# Altium footprint library OPL_Inductor.PCBLIB: 6 footprints
Each footprint in its own frame and in the unit in brackets; x right, y up, seen from the top. Pads: shape width x height; smd on the part's side, far side on the other; paste and mask are expansions set on the pad; w line width, h text height; cw(c..) or ccw(c..) is an arc to the next point about the centre after c.
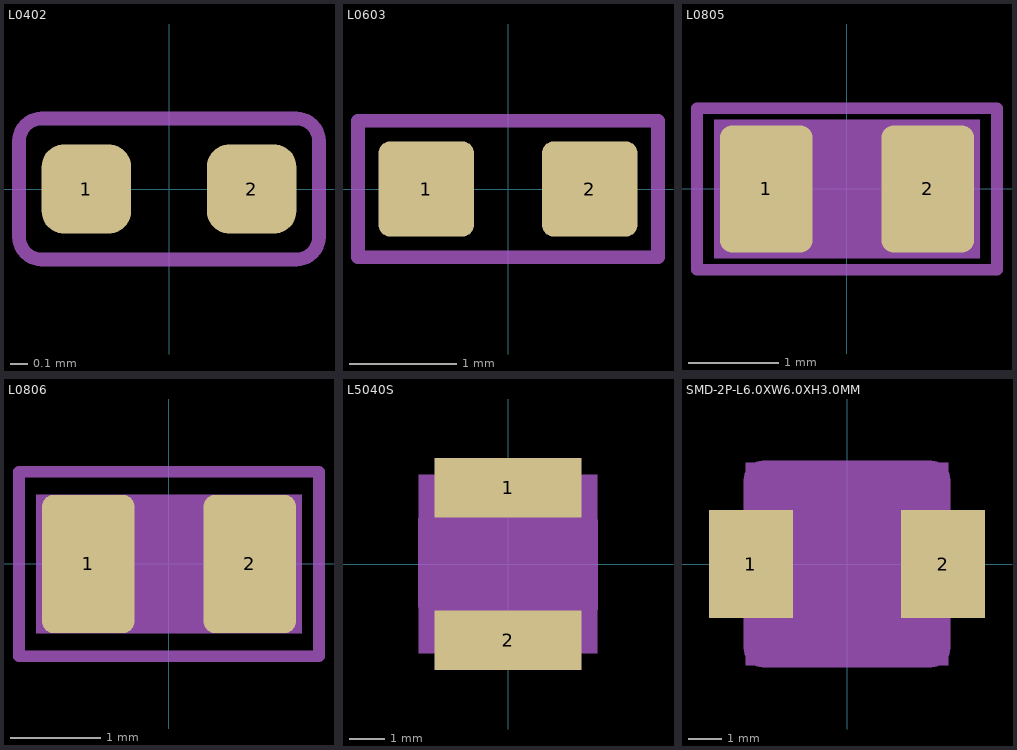
[diagram p0: the footprints below, top view; thin cyan lines are the x and y axes]

## L0402 [mil]
pads (2):
  rrect50% 19.69x19.69 smd: 1(-18.21,0) 2(18.21,0)
Mechanical 2:
  lines w3: -33.03,-10.53 ccw(c-28.03,-10.53) -28.03,-15.53 28.03,-15.53 ccw(c28.03,-10.53) 33.03,-10.53 33.03,10.53 ccw(c28.03,10.53) 28.03,15.53 -28.03,15.53 ccw(c-28.03,10.53) -33.03,10.53 -33.03,-10.53

## L0603 [mil]
pads (2):
  rrect25% 35x35 smd: 1(-30,0) 2(30,0)
Mechanical 2:
  lines w5: -55,-25 55,-25 55,25 -55,25 -55,-25

## L0805 [mil]
pads (2):
  rrect25% 40x55 smd: 1(-35,0) 2(35,0)
Mechanical 2:
  lines w5: -65,-35 65,-35 65,35 -65,35 -65,-35
Mech34:
  region: -57.5,-30 -57.5,30 57.5,30 57.5,-30

## L0806 [mil]
pads (2):
  rrect25% 40x60 smd: 1(-35,0) 2(35,0)
Mechanical 2:
  lines w5: 5,-20 cw(c5,-10) 5,0 cw(c5,10) 5,20 ; -65,-40 65,-40 65,40 -65,40 -65,-40
Mech34:
  region: -57.5,-30 -57.5,30 57.5,30 57.5,-30

## L5040S [mm]
pads (2):
  rect 4.2x1.7 smd: 1(0,2.175) 2(0,-2.175)
Mechanical 2:
  lines w0.127: -2.5,-1.224 -2.5,1.286 -1.286,2.5 1.247,2.5 2.5,1.247 2.5,-1.286 1.286,-2.5 -1.224,-2.5 -2.5,-1.224
Mech34:
  region: -2.54,-2.54 -2.54,2.54 2.54,2.54 2.54,-2.54

## SMD-2P-L6.0XW6.0XH3.0MM [mil]
pads (2):
  rect 98.43x125.98 smd: 1(-112.2,0) 2(112.2,0)
Mechanical 2:
  lines w5: -118.11,-66.93 -118.11,-98.43 ccw(c-98.43,-98.43) -98.43,-118.11 98.43,-118.11 ccw(c98.43,-98.43) 118.11,-98.43 118.11,-66.93 ; -118.11,66.93 -118.11,98.43 cw(c-98.43,98.43) -98.43,118.11 98.43,118.11 cw(c98.43,98.43) 118.11,98.43 118.11,66.93
Mechanical 8:
  lines w5: -118.11,-98.43 -118.11,98.43 ; 118.11,-98.43 118.11,66.93 118.11,98.43
Mech34:
  region: -118.11,-118.11 -118.11,118.11 118.11,118.11 118.11,-118.11